# EAGLE library part DMN1019UVT (library IPNS_Lib_v0.1)
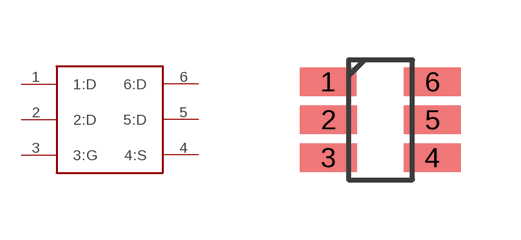
[diagram p4: symbol with the pads of DMN1019UVT; footprint DMN1019UVT]

Designator prefix -

## DMN1019UVT  [DMN1019UVT]
1  1:D
2  2:D
3  3:G
4  4:S
5  5:D
6  6:D

## Footprint DMN1019UVT (pad centres in mm)
smd 1.422 x 0.711: 1 -1.31,0.95; 2 -1.3,0; 3 -1.3,-0.95; 4 1.3,-0.95; 5 1.3,0; 6 1.3,0.95